# EAGLE library part 61901019521 (library Wire_to_Board_Connectors_rev15d)
WR-WTB 2.54mm Right Angled Locking Header Top Locking, 10 Pins=>Code : Con_WTB_2.54_PCB_THT_61901019521 <http://katalog.we-online.de/media/thumbs2/eican/thb_Con_WTB_2.54_PCB_THT_6190xx19521_pf2.jpg> Details see: http://katalog.we-online.de/en/em/619_0xx_195_21 Created 2014-06-05, Karrer Zheng 2014 (C) Würth Elektronik
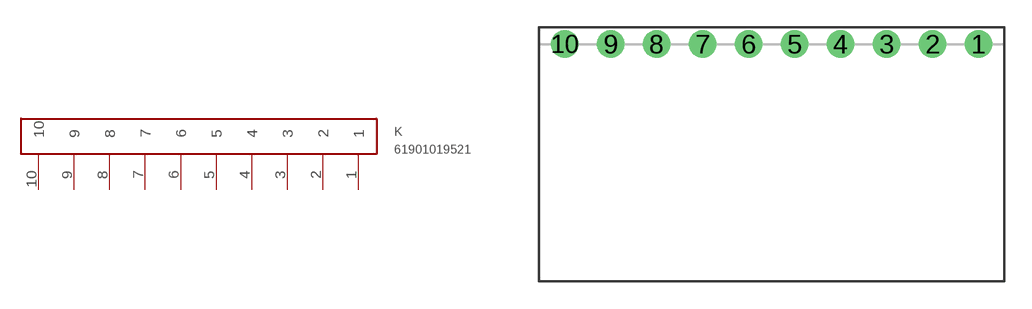
[diagram p12: symbol with the pads of 61901019521; footprint 61901019521]

Designator prefix K

## 61901019521  [61901019521]
1  1  pas
2  2  pas
3  3  pas
4  4  pas
5  5  pas
6  6  pas
7  7  pas
8  8  pas
9  9  pas
10  10  pas

## Footprint 61901019521 (pad centres in mm)
WR-WTB 2.54mm Right Angled Locking Header Top Locking, 10 Pins
drill 1: 1 1.27,0; 2 -1.27,0; 3 -3.81,0; 4 -6.35,0; 5 -8.89,0; 6 -11.43,0; 7 -13.97,0; 8 -16.51,0; 9 -19.05,0; 10 -21.59,0